# Altium footprint library TSSOP38.PcbLib: 1 footprints
Each footprint in its own frame and in the unit in brackets; x right, y up, seen from the top. Pads: shape width x height; smd on the part's side, far side on the other; paste and mask are expansions set on the pad; w line width, h text height; cw(c..) or ccw(c..) is an arc to the next point about the centre after c.
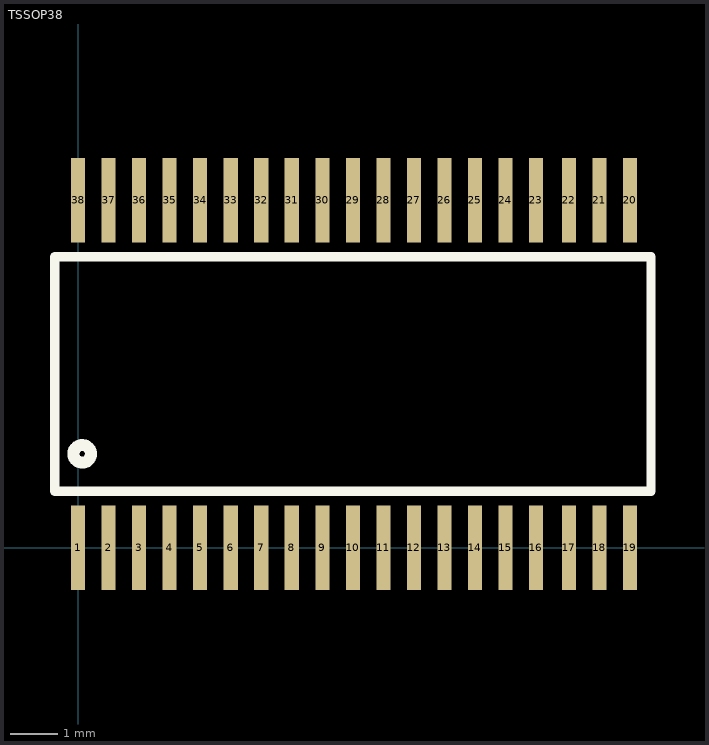
[diagram p0: the footprint, top view; thin cyan lines are the x and y axes]

## TSSOP38 [mm]
pads (38):
  rect 0.3x1.8 smd: 1(0,0) 2(0.65,0) 3(1.3,0) 4(1.95,0) 5(2.6,0) 6(3.25,0) 7(3.9,0) 8(4.55,0) 9(5.2,0) 10(5.85,0) 11(6.5,0) 12(7.15,0) 13(7.8,0) 14(8.45,0) 15(9.1,0) 16(9.75,0) 17(10.45,0) 18(11.1,0) 19(11.75,0) 20(11.75,7.4) 21(11.1,7.4) 22(10.45,7.4) 23(9.75,7.4) 24(9.1,7.4) 25(8.45,7.4) 26(7.8,7.4) 27(7.15,7.4) 28(6.5,7.4) 29(5.85,7.4) 30(5.2,7.4) 31(4.55,7.4) 32(3.9,7.4) 33(3.25,7.4) 34(2.6,7.4) 35(1.95,7.4) 36(1.3,7.4) 37(0.65,7.4) 38(0,7.4)
Top Overlay:
  circle w0.254: c0.088,2 r0.188
  lines w0.2: -0.5,1.2 12.2,1.2 12.2,6.2 -0.5,6.2 -0.5,1.2
3D body: height 1.1, standoff 0, extent -0.45,-0.4 12.15,7.7